# Altium schematic symbol library 9W YT21392CGAS7 FL 9W81V95mA.SCHLIB: 6 symbols
Pins are listed as number, name and electrical type; pins without a type are passive.

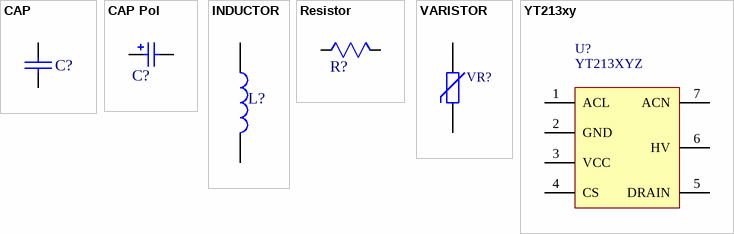
[diagram p0: symbols CAP to YT213xy]

## CAP
designator C?, comment CBB,100nF,630V,P10  (value not drawn)
Capacitor
footprint C7.5
pins: 1, 2
2 alternate drawings of the same symbol

## CAP Pol
designator C?, comment 68uF/100V,10*16  (value not drawn)
µç½âµçÈÝ
footprint CD8*12 3.5
footprint CD10*20-5
pins: 1, 2
2 alternate drawings of the same symbol

## INDUCTOR
designator L?, comment 6*8¹¤×Ö,5mH,0.1mm  (value not drawn)
EE13V1.5mH,170T,0.21mm
footprint L6*8
footprint EE10V_PIN1_3_8 (Transformer type Inductor); pin to pad 1>1+3 2>8
pins: 1, 2
2 alternate drawings of the same symbol

## Resistor
designator R?, comment 2R7,1%,1206  (value not drawn)
µç×è
footprint Rth-extnd
footprint Rth-bent
footprint R0805
footprint R1206
footprint R0805-bottom (bottom pads for R0805)
footprint R1206-bottom (Bottom pads for R1206 size)
pins: 1, 2 5
2 alternate drawings of the same symbol

## VARISTOR
designator VR?, comment 07D511  (value not drawn)
footprint RD8
pins: 1, 2
2 alternate drawings of the same symbol

## YT213xy
designator U?, comment YT213XYZ
footprint ASOP7-bottom
footprint ASOP7-top
pins: 1 ACL, 2 GND (power), 3 VCC (power), 4 CS (power), 5 DRAIN (power), 6 HV (power), 7 ACN (power)
2 alternate drawings of the same symbol